# Altium footprint library SparkFun-Connectors.PCBLIB: 43 footprints (part 1 of 3)
Each footprint in its own frame and in the unit in brackets; x right, y up, seen from the top. Pads: shape width x height; smd on the part's side, far side on the other; paste and mask are expansions set on the pad; w line width, h text height; cw(c..) or ccw(c..) is an arc to the next point about the centre after c.
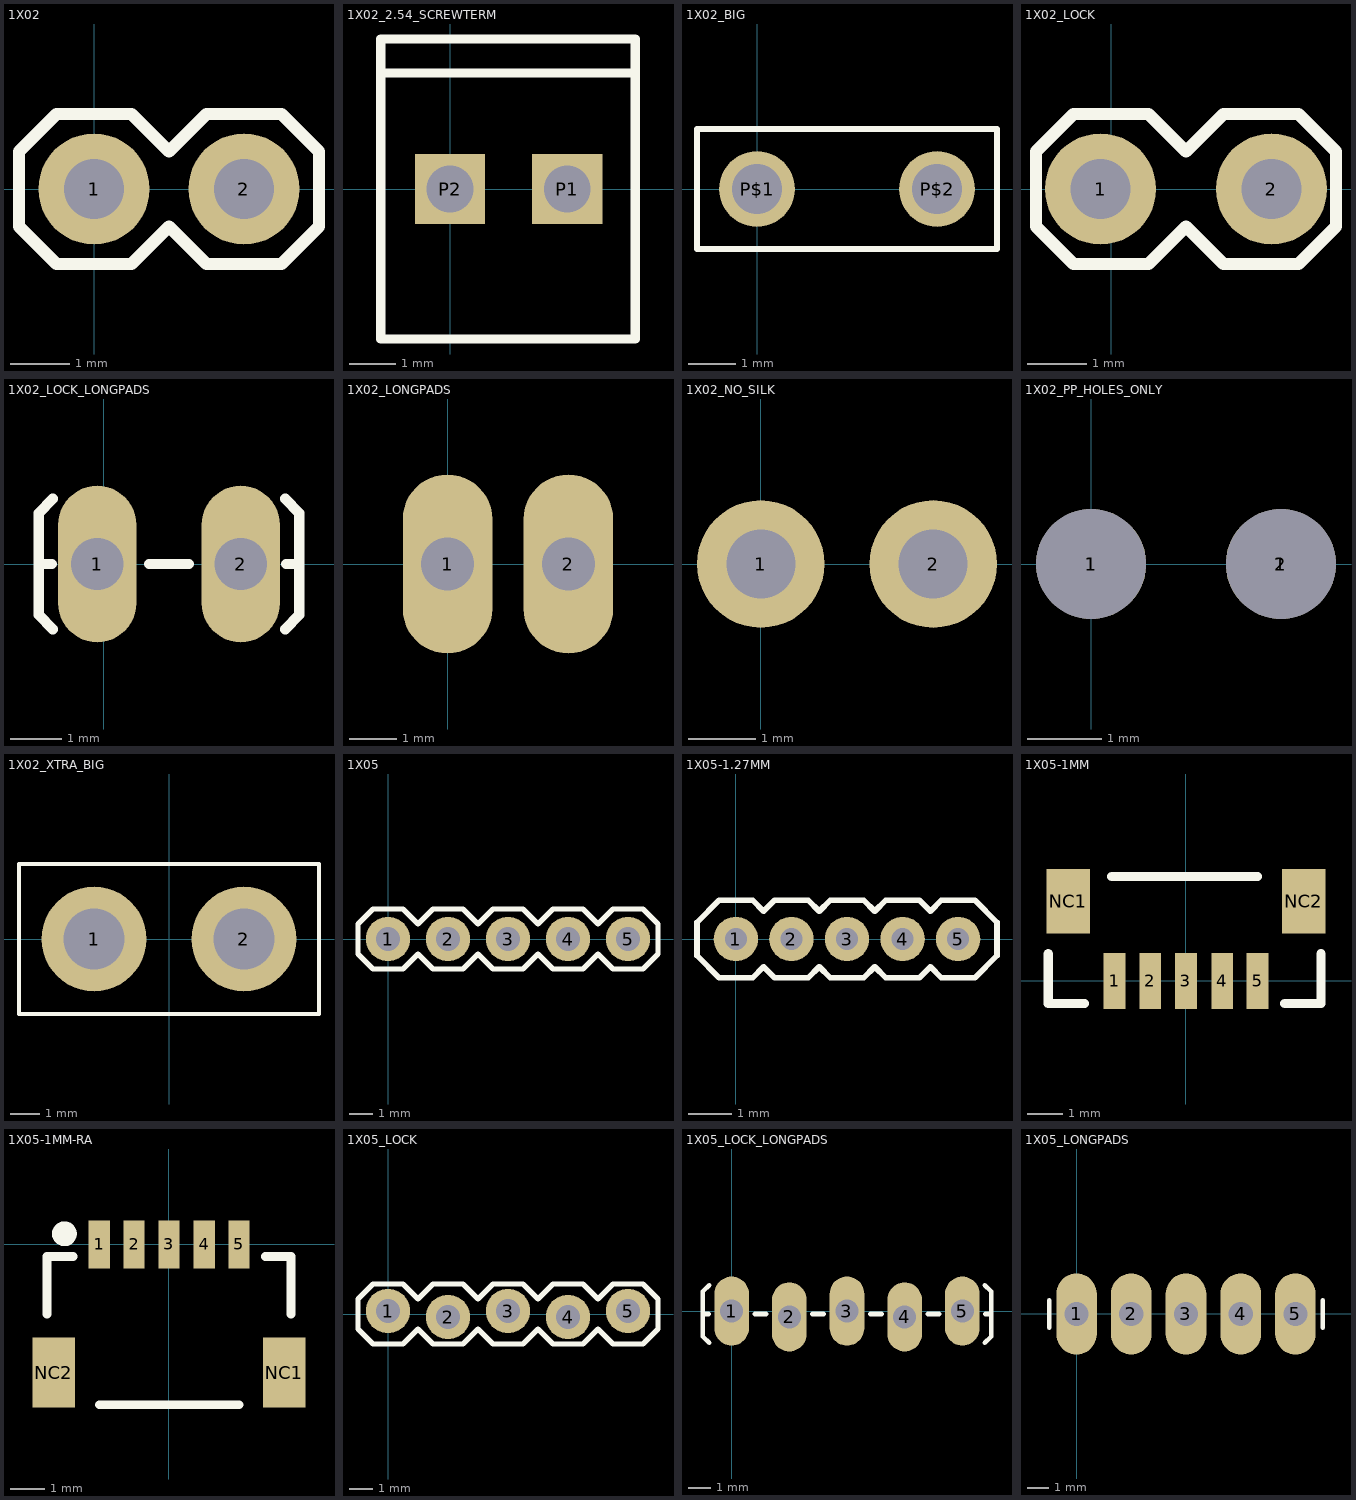
[diagram p0: the footprints below, top view; thin cyan lines are the x and y axes]

## 1X02 [mil]
pads (2):
  round 74 hole 40: 1(0,0) 2(100,0)
Top Overlay:
  lines w8: -50,-25 -50,25 -25,50 25,50 50,25 75,50 125,50 150,25 150,-25 125,-50 75,-50 50,-25 25,-50 -25,-50 -50,-25
Mechanical 16:
  rectangle: 90,-10 110,10
  rectangle: -10,-10 10,10

## 1X02_2.54_SCREWTERM [mil]
pads (2):
  rect 60x60 hole 40: P1(100,0) P2(0,0)
Top Overlay:
  lines w8: -59.06,99 -59.06,-127.95 158,-127.95 158,99 ; -59.06,99 -59.06,128 158,128 158,99 ; -59.06,99 158,99

## 1X02_BIG [mil]
pads (2):
  round 63 hole 42: P$1(0,0) P$2(150,0)
Top Overlay:
  lines w5: -50,-50 -50,50 200,50 200,-50 -50,-50

## 1X02_LOCK [mil]
pads (2):
  round 74 hole 40: 1(-7,0) 2(107,0)
Top Overlay:
  lines w8: -50,-25 -50,25 -25,50 25,50 50,25 75,50 125,50 150,25 150,-25 125,-50 75,-50 50,-25 25,-50 -25,-50 -50,-25
Mechanical 16:
  rectangle: -11.5,-11.5 12,12
  rectangle: 89,-11.5 112,12

## 1X02_LOCK_LONGPADS [mil]
pads (2):
  oval 60x120 hole 40: 1(-5,0) 2(105,0)
Top Overlay:
  lines w8: -40,0 -50,0 ; -39,-50 -50,-39 -50,0 ; -39,50 -50,39 -50,0 ; 35,0 65,0 ; 139,-50 150,-39 150,0 ; 139,50 150,39 150,0 ; 140,0 150,0
Mechanical 16:
  rectangle: -11.5,-11.5 12,12
  rectangle: 89,-11.5 112,12

## 1X02_LONGPADS [mil]
pads (2):
  oval 74x148 hole 44: 1(0,0) 2(100,0)

## 1X02_NO_SILK [mil]
pads (2):
  round 74 hole 40: 1(0,0) 2(100,0)
Mechanical 16:
  rectangle: 90,-10 110,10
  rectangle: -10,-10 10,10

## 1X02_PP_HOLES_ONLY [mil]
pads (4):
  round 32 hole 35: 1(0,0) 2(100,0)
  round 58 hole 58: 1(0,0) 1(100,0)
Mechanical 16:
  circle w5: c0,0 r25
  circle w5: c100,0 r25

## 1X02_XTRA_BIG [mil]
pads (2):
  round 140 hole 81: 1(-100,0) 2(100,0)
Top Overlay:
  lines w5: -200,-100 -200,100 200,100 200,-100 -200,-100

## 1X05 [mil]
pads (5):
  round 74 hole 40: 1(0,0) 2(100,0) 3(200,0) 4(300,0) 5(400,0)
Top Overlay:
  lines w8: -50,-25 -50,25 -25,50 25,50 50,25 75,50 125,50 150,25 175,50 225,50 250,25 275,50 325,50 350,25 375,50 425,50 450,25 450,-25 425,-50 375,-50 350,-25 325,-50 275,-50 250,-25 225,-50 175,-50 150,-25 125,-50 75,-50 50,-25 25,-50 -25,-50 -50,-25
Mechanical 16:
  rectangle: 390,-10 410,10
  rectangle: 290,-10 310,10
  rectangle: 190,-10 210,10
  rectangle: 90,-10 110,10
  rectangle: -10,-10 10,10

## 1X05-1.27MM [mil]
pads (5):
  round 40 hole 20: 1(0,0) 2(50,0) 3(100,0) 4(150,0) 5(200,0)
Top Overlay:
  lines w5: -35,-15 -15,-35 15,-35 25,-25 35,-35 65,-35 75,-25 85,-35 115,-35 125,-25 135,-35 165,-35 175,-25 185,-35 215,-35 235,-15 235,15 215,35 185,35 175,25 165,35 135,35 125,25 115,35 85,35 75,25 65,35 35,35 25,25 15,35 -15,35 -35,15 -35,-15

## 1X05-1MM [mil]
pads (7):
  rect 24x62 smd: 1(-78.74,0) 2(-39.37,0) 3(0,0) 4(40,0) 5(79,0)
  rect 48x71 smd: NC1(-129.92,88) NC2(130,88)
Top Overlay:
  lines w10: -151.89,30 -151.89,-25 -111.89,-25 ; -81.89,115 79,115 ; 109,-25 149,-25 149,30

## 1X05-1MM-RA [mil]
pads (7):
  rect 24x54 smd: 1(-78.74,0) 2(-39.37,0) 3(0,0) 4(40,0) 5(79,0)
  rect 48x79 smd: NC1(130,-144.69) NC2(-129.92,-144.69)
Top Overlay:
  circle w16: c-118.11,12 r6
  lines w10: -137.8,-78.74 -137.8,-13.78 -108.27,-13.78 ; -78.74,-181.1 79,-181.1 ; 109,-13.78 138,-13.78 138,-78.74

## 1X05_LOCK [mil]
pads (5):
  round 74 hole 40: 1(0,5) 2(100,-5) 3(200,5) 4(300,-5) 5(400,5)
Top Overlay:
  lines w8: -50,-25 -50,25 -25,50 25,50 50,25 75,50 125,50 150,25 175,50 225,50 250,25 275,50 325,50 350,25 375,50 425,50 450,25 450,-25 425,-50 375,-50 350,-25 325,-50 275,-50 250,-25 225,-50 175,-50 150,-25 125,-50 75,-50 50,-25 25,-50 -25,-50 -50,-25
Mechanical 16:
  rectangle: 390,-10 410,10
  rectangle: 290,-10 310,10
  rectangle: 190,-10 210,10
  rectangle: 90,-10 110,10
  rectangle: -10,-10 10,10

## 1X05_LOCK_LONGPADS [mil]
pads (5):
  oval 60x120 hole 40: 1(0,0) 2(100,-10) 3(200,0) 4(300,-10) 5(400,0)
Top Overlay:
  lines w8: -40,-5 -50,-5 ; -39,-55 -50,-44 -50,-5 ; -39,45 -50,34 -50,-5 ; 40,-5 60,-5 ; 140,-5 160,-5 ; 240,-5 260,-5 ; 340,-5 360,-5 ; 439,-55 450,-44 450,-5 ; 439,45 450,34 450,-5 ; 440,-5 450,-5
Mechanical 16:
  rectangle: -11.5,-16.5 12,7
  rectangle: 89,-16.5 112,7
  rectangle: 189,-16.5 212,7
  region: 312.25,-16.25 312.25,6.75 288.75,6.75 288.75,-16.25
  rectangle: 389,-16.5 412,7

## 1X05_LONGPADS [mil]
pads (5):
  oval 74x148 hole 44: 1(0,0) 2(100,0) 3(200,0) 4(300,0) 5(400,0)
Top Overlay:
  lines w8: -50,-25 -50,25 ; 450,-25 450,25
Mechanical 16:
  rectangle: 390,-10 410,10
  rectangle: 290,-10 310,10
  rectangle: 190,-10 210,10
  rectangle: 90,-10 110,10
  rectangle: -10,-10 10,10